# EAGLE library part LC4128ZE_XXMN144_S (library lattice_ispmach4000ze)
ispMACH 4128ZE csBGA144, Split Lattice Semiconductor Corporation - ispMACH 4000ZE Ultra Low Power, Low Cost CPLD Family Generated using Lattice BSDL models: http://www.latticesemi.com/dynamic/index.cfm?fuseaction=view_documents&document_type=36&sloc=01-01-02-01&source=sidebar
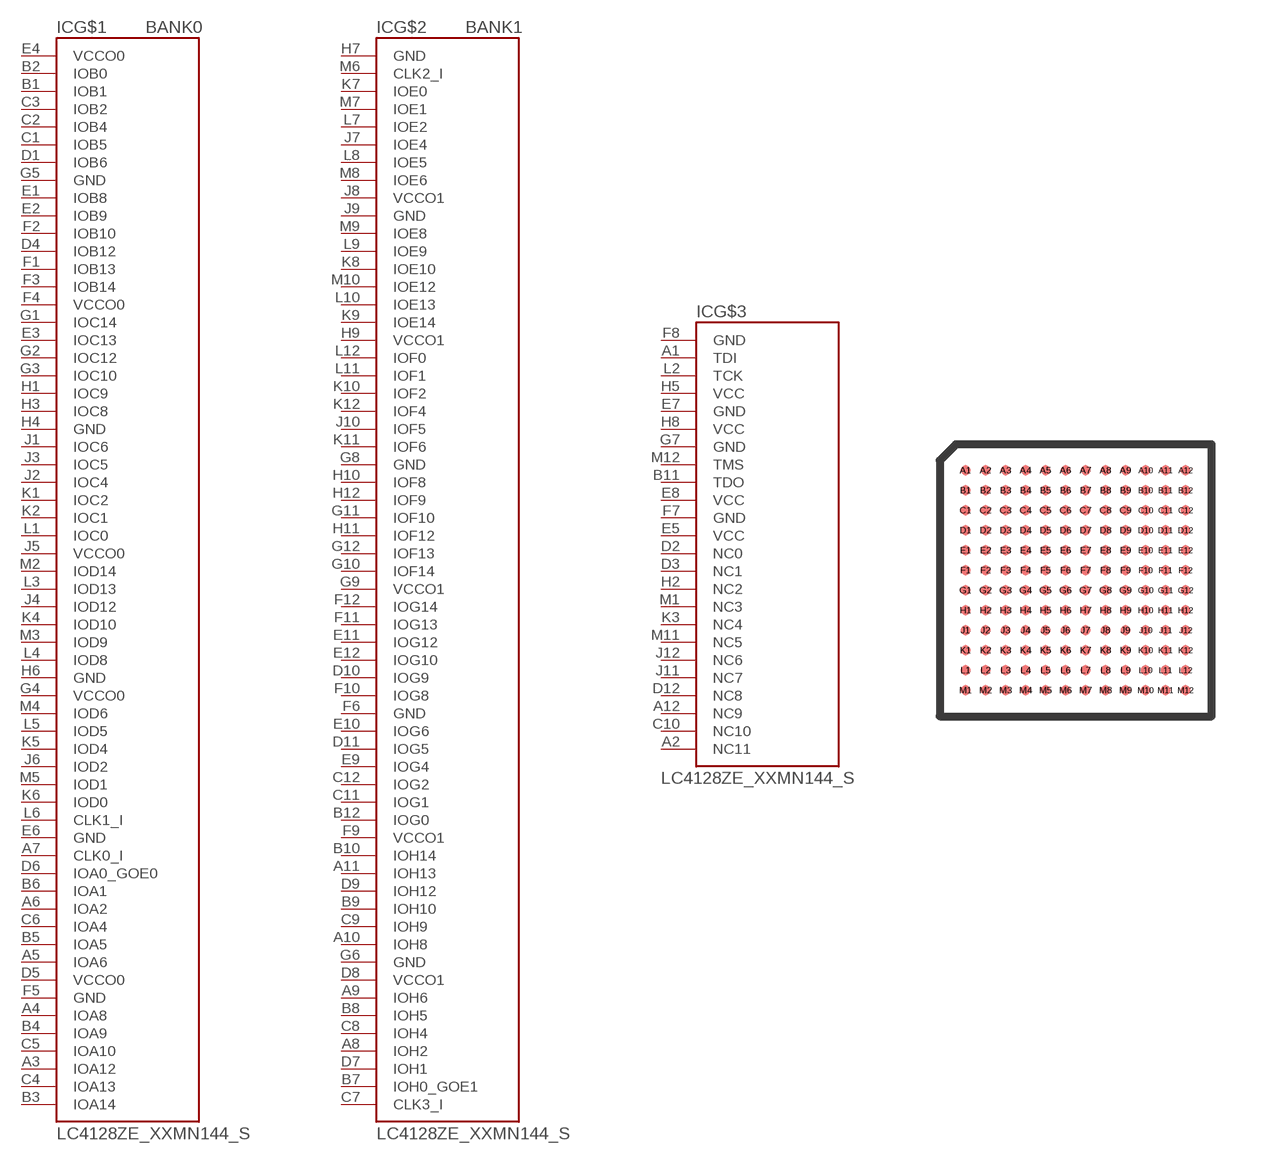
[diagram p20: symbol with the pads of CSBGA144; footprint CSBGA144]

Designator prefix IC; gates G$2=ISPMACH_LC4128ZE_MN144_PARTB G$3=ISPMACH_LC4128ZE_MN144_PARTC G$1=ISPMACH_LC4128ZE_MN144_PARTA

## LC4128ZE_XXMN144_S  [CSBGA144]
A1  G$3:TDI  in
A2  G$3:NC11  pas
A3  G$1:IOA12
A4  G$1:IOA8
A5  G$1:IOA6
A6  G$1:IOA2
A7  G$1:CLK0_I  in
A8  G$2:IOH2
A9  G$2:IOH6
A10  G$2:IOH8
A11  G$2:IOH13
A12  G$3:NC9  pas
B1  G$1:IOB1
B2  G$1:IOB0
B3  G$1:IOA14
B4  G$1:IOA9
B5  G$1:IOA5
B6  G$1:IOA1
B7  G$2:IOH0_GOE1
B8  G$2:IOH5
B9  G$2:IOH10
B10  G$2:IOH14
B11  G$3:TDO  out
B12  G$2:IOG0
C1  G$1:IOB5
C2  G$1:IOB4
C3  G$1:IOB2
C4  G$1:IOA13
C5  G$1:IOA10
C6  G$1:IOA4
C7  G$2:CLK3_I  in
C8  G$2:IOH4
C9  G$2:IOH9
C10  G$3:NC10  pas
C11  G$2:IOG1
C12  G$2:IOG2
D1  G$1:IOB6
D2  G$3:NC0  pas
D3  G$3:NC1  pas
D4  G$1:IOB12
D5  G$1:VCCO0  pwr
D6  G$1:IOA0_GOE0
D7  G$2:IOH1
D8  G$2:VCCO1  pwr
D9  G$2:IOH12
D10  G$2:IOG9
D11  G$2:IOG5
D12  G$3:NC8  pas
E1  G$1:IOB8
E2  G$1:IOB9
E3  G$1:IOC13
E4  G$1:VCCO0  pwr
E5  G$3:VCC  pwr
E6  G$1:GND  pwr
E7  G$3:GND  pwr
E8  G$3:VCC  pwr
E9  G$2:IOG4
E10  G$2:IOG6
E11  G$2:IOG12
E12  G$2:IOG10
F1  G$1:IOB13
F2  G$1:IOB10
F3  G$1:IOB14
F4  G$1:VCCO0  pwr
F5  G$1:GND  pwr
F6  G$2:GND  pwr
F7  G$3:GND  pwr
F8  G$3:GND  pwr
F9  G$2:VCCO1  pwr
F10  G$2:IOG8
F11  G$2:IOG13
F12  G$2:IOG14
G1  G$1:IOC14
G2  G$1:IOC12
G3  G$1:IOC10
G4  G$1:VCCO0  pwr
G5  G$1:GND  pwr
G6  G$2:GND  pwr
G7  G$3:GND  pwr
G8  G$2:GND  pwr
G9  G$2:VCCO1  pwr
G10  G$2:IOF14
G11  G$2:IOF10
G12  G$2:IOF13
H1  G$1:IOC9
H2  G$3:NC2  pas
H3  G$1:IOC8
H4  G$1:GND  pwr
H5  G$3:VCC  pwr
H6  G$1:GND  pwr
H7  G$2:GND  pwr
H8  G$3:VCC  pwr
H9  G$2:VCCO1  pwr
H10  G$2:IOF8
H11  G$2:IOF12
H12  G$2:IOF9
J1  G$1:IOC6
J2  G$1:IOC4
J3  G$1:IOC5
J4  G$1:IOD12
J5  G$1:VCCO0  pwr
J6  G$1:IOD2
J7  G$2:IOE4
J8  G$2:VCCO1  pwr
J9  G$2:GND  pwr
J10  G$2:IOF5
J11  G$3:NC7  pas
J12  G$3:NC6  pas
K1  G$1:IOC2
K2  G$1:IOC1
K3  G$3:NC4  pas
K4  G$1:IOD10
K5  G$1:IOD4
K6  G$1:IOD0
K7  G$2:IOE0
K8  G$2:IOE10
K9  G$2:IOE14
K10  G$2:IOF2
K11  G$2:IOF6
K12  G$2:IOF4
L1  G$1:IOC0
L2  G$3:TCK  in
L3  G$1:IOD13
L4  G$1:IOD8
L5  G$1:IOD5
L6  G$1:CLK1_I  in
L7  G$2:IOE2
L8  G$2:IOE5
L9  G$2:IOE9
L10  G$2:IOE13
L11  G$2:IOF1
L12  G$2:IOF0
M1  G$3:NC3  pas
M2  G$1:IOD14
M3  G$1:IOD9
M4  G$1:IOD6
M5  G$1:IOD1
M6  G$2:CLK2_I  in
M7  G$2:IOE1
M8  G$2:IOE6
M9  G$2:IOE8
M10  G$2:IOE12
M11  G$3:NC5  pas
M12  G$3:TMS  in

## Footprint CSBGA144 (pad centres in mm)
csBGA - 144 http://www.latticesemi.com/lit/docs/package/pkg.pdf
smd 0.25 x 0.25: A1 -2.75,2.75; A2 -2.25,2.75; A3 -1.75,2.75; A4 -1.25,2.75; A5 -0.75,2.75; A6 -0.25,2.75; A7 0.25,2.75; A8 0.75,2.75; A9 1.25,2.75; A10 1.75,2.75; A11 2.25,2.75; A12 2.75,2.75; B1 -2.75,2.25; B2 -2.25,2.25; B3 -1.75,2.25; B4 -1.25,2.25; B5 -0.75,2.25; B6 -0.25,2.25; B7 0.25,2.25; B8 0.75,2.25; B9 1.25,2.25; B10 1.75,2.25; B11 2.25,2.25; B12 2.75,2.25; C1 -2.75,1.75; C2 -2.25,1.75; C3 -1.75,1.75; C4 -1.25,1.75; C5 -0.75,1.75; C6 -0.25,1.75; C7 0.25,1.75; C8 0.75,1.75; C9 1.25,1.75; C10 1.75,1.75; C11 2.25,1.75; C12 2.75,1.75; D1 -2.75,1.25; D2 -2.25,1.25; D3 -1.75,1.25; D4 -1.25,1.25; D5 -0.75,1.25; D6 -0.25,1.25; D7 0.25,1.25; D8 0.75,1.25; D9 1.25,1.25; D10 1.75,1.25; D11 2.25,1.25; D12 2.75,1.25; E1 -2.75,0.75; E2 -2.25,0.75; E3 -1.75,0.75; E4 -1.25,0.75; E5 -0.75,0.75; E6 -0.25,0.75; E7 0.25,0.75; E8 0.75,0.75; E9 1.25,0.75; E10 1.75,0.75; E11 2.25,0.75; E12 2.75,0.75; F1 -2.75,0.25; F2 -2.25,0.25; F3 -1.75,0.25; F4 -1.25,0.25; F5 -0.75,0.25; F6 -0.25,0.25; F7 0.25,0.25; F8 0.75,0.25; F9 1.25,0.25; F10 1.75,0.25; F11 2.25,0.25; F12 2.75,0.25; G1 -2.75,-0.25; G2 -2.25,-0.25; G3 -1.75,-0.25; G4 -1.25,-0.25; G5 -0.75,-0.25; G6 -0.25,-0.25; G7 0.25,-0.25; G8 0.75,-0.25; G9 1.25,-0.25; G10 1.75,-0.25; G11 2.25,-0.25; G12 2.75,-0.25; H1 -2.75,-0.75; H2 -2.25,-0.75; H3 -1.75,-0.75; H4 -1.25,-0.75; H5 -0.75,-0.75; H6 -0.25,-0.75; H7 0.25,-0.75; H8 0.75,-0.75; H9 1.25,-0.75; H10 1.75,-0.75; H11 2.25,-0.75; H12 2.75,-0.75; J1 -2.75,-1.25; J2 -2.25,-1.25; J3 -1.75,-1.25; J4 -1.25,-1.25; J5 -0.75,-1.25; J6 -0.25,-1.25; J7 0.25,-1.25; J8 0.75,-1.25; J9 1.25,-1.25; J10 1.75,-1.25; J11 2.25,-1.25; J12 2.75,-1.25; K1 -2.75,-1.75; K2 -2.25,-1.75; K3 -1.75,-1.75; K4 -1.25,-1.75; K5 -0.75,-1.75; K6 -0.25,-1.75; K7 0.25,-1.75; K8 0.75,-1.75; K9 1.25,-1.75; K10 1.75,-1.75; K11 2.25,-1.75; K12 2.75,-1.75; L1 -2.75,-2.25; L2 -2.25,-2.25; L3 -1.75,-2.25; L4 -1.25,-2.25; L5 -0.75,-2.25; L6 -0.25,-2.25; L7 0.25,-2.25; L8 0.75,-2.25; L9 1.25,-2.25; L10 1.75,-2.25; L11 2.25,-2.25; L12 2.75,-2.25; M1 -2.75,-2.75; M2 -2.25,-2.75; M3 -1.75,-2.75; M4 -1.25,-2.75; M5 -0.75,-2.75; M6 -0.25,-2.75; M7 0.25,-2.75; M8 0.75,-2.75; M9 1.25,-2.75; M10 1.75,-2.75; M11 2.25,-2.75; M12 2.75,-2.75